# Altium footprint library Driver.PcbLib: 21 footprints (part 2 of 2)
Each footprint in its own frame and in the unit in brackets; x right, y up, seen from the top. Pads: shape width x height; smd on the part's side, far side on the other; paste and mask are expansions set on the pad; w line width, h text height; cw(c..) or ccw(c..) is an arc to the next point about the centre after c.
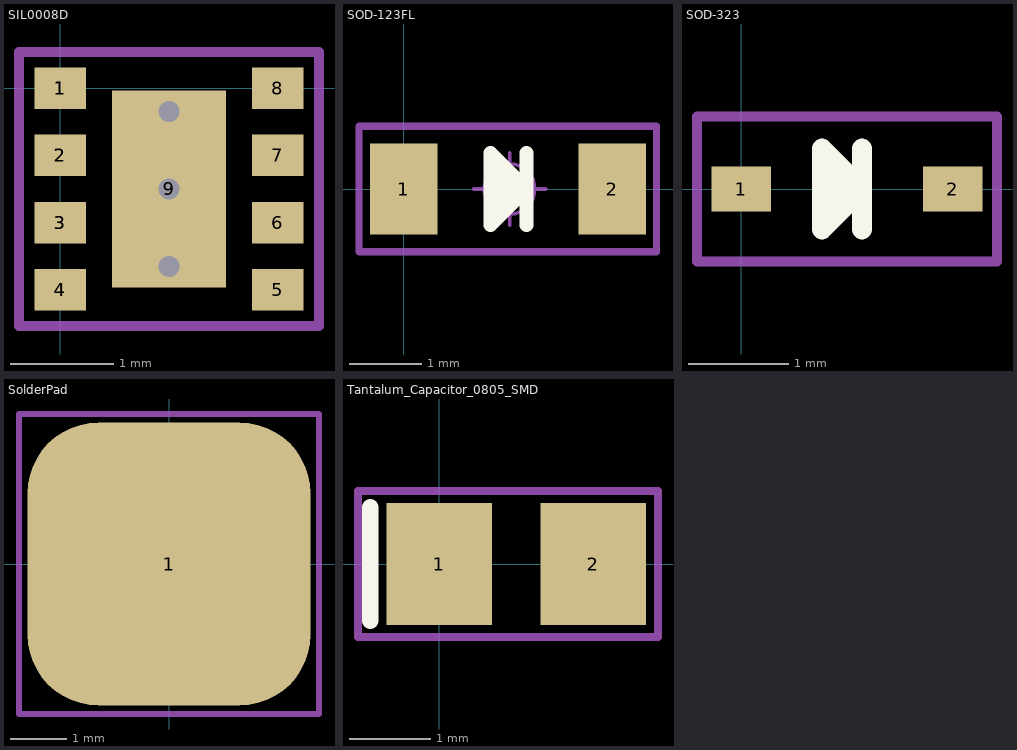
[diagram p1: the footprints below, top view; thin cyan lines are the x and y axes]

## SIL0008D [mm]
pads (14):
  rect 0.5x0.4 smd: 1(0,0) 1(0,0) 1(0,0) 2(0,-0.65) 2(0,-0.65) 3(0,-1.3) 3(0,-1.3) 4(0,-1.95) 4(0,-1.95) 5(2.1,-1.95) 6(2.1,-1.3) 7(2.1,-0.65) 8(2.1,0)
  rect 1.1x1.9 smd: 9(1.05,-0.975)
via 1.05,-1.725 diameter 0.4 hole 0.2
via 1.05,-0.975 diameter 0.4 hole 0.2
via 1.05,-0.225 diameter 0.4 hole 0.2
Mechanical 15:
  lines w0.1: -0.4,-2.3 2.5,-2.3 2.5,0.35 -0.4,0.35 -0.4,-2.3
3D body "SIL0008D.step": height 1.53, standoff 0, extent -0.35,-2.47 2.45,0.53

## SOD-123FL [mm]
pads (2):
  rect 0.94x1.27 smd: 1(0,0) 2(2.896,0)
Top Overlay:
  lines w0.2: 1.333,0.198 1.333,-0.184 1.5,-0.017 1.5,0.073 ; 1.705,-0.5 1.705,0.5 ; 1.205,-0.5 1.205,0.5 1.705,0 1.205,-0.5
Mechanical 15:
  circle w0.05: c1.47,0 r0.35
  lines w0.05: 0.97,0 1.97,0 ; 1.47,-0.5 1.47,0.5
  lines w0.1: -0.62,-0.87 3.51,-0.87 3.51,0.87 -0.62,0.87 -0.62,-0.87
3D body "SOD-123FL.step": height 0.94, standoff -0.01, extent -0.344,-0.825 3.244,0.825

## SOD-323 [mm]
pads (2):
  rect 0.59x0.45 smd: 1(0,0) 2(2.1,0)
Top Overlay:
  lines w0.2: 0.897,-0.196 0.897,0.231 ; 1,-0.2 1,0.2 ; 1.2,-0.4 1.2,0.4 ; 0.8,-0.4 1.2,0 0.8,0.4 0.8,-0.4
Mechanical 15:
  lines w0.1: -0.44,-0.72 2.54,-0.72 2.54,0.72 -0.44,0.72 -0.44,-0.72
3D body "SOD-323.step": height 1.1, standoff 0, extent -0.25,-0.675 2.35,0.675

## SolderPad [mm]
pads (1):
  rrect50% 5x5 smd paste-2539.97: 1(0,0)
Mechanical 15:
  lines w0.1: -2.65,-2.65 2.65,-2.65 2.65,2.65 -2.65,2.65 -2.65,-2.65

## Tantalum_Capacitor_0805_SMD [mm]
pads (2):
  rect 1.3x1.5 smd: 1(0,0) 2(1.9,0)
Top Overlay:
  lines w0.2: -0.85,-0.7 -0.85,0.7
Mechanical 15:
  lines w0.1: -1,-0.9 2.7,-0.9 2.7,0.9 -1,0.9 -1,-0.9
3D body "tantalum_capacitor_case_R_2012.step": height 1.2, standoff 0, extent -0.04,-0.65 1.96,0.65